# EAGLE library part HD-A103 (library stm32f4tuner)
LED DISPLAY 1-character 7 segment, decimal point right
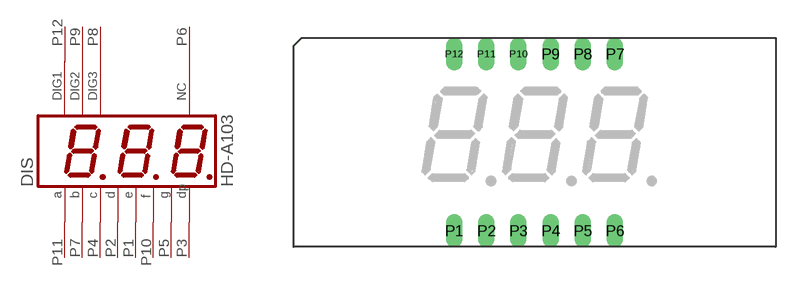
[diagram p2: symbol with the pads of HDSP-A; footprint HDSP-A]

Designator prefix DIS

## HD-A103 (OC_FARNELL: unknown; OC_NEWARK: unknown)  [HDSP-A]
P1  E  pas
P2  D  pas
P3  DP  pas
P4  C  pas
P5  G  pas
P6  NC  pas
P7  B  pas
P8  DIG3  pas
P9  DIG2  pas
P10  F  pas
P11  A  pas
P12  DIG1  pas

## Footprint HDSP-A (pad centres in mm)
LED DISPLAY 8-mm 1 character 7 segment, decimal point right
drill 0.813 long: P1 -6.35,-8.89; P2 -3.81,-8.89; P3 -1.27,-8.89; P4 1.27,-8.89; P5 3.81,-8.89; P6 6.35,-8.89; P7 6.35,5.08; P8 3.81,5.08; P9 1.27,5.08; P10 -1.27,5.08; P11 -3.81,5.08; P12 -6.35,5.08